# EAGLE library part MAX3375E (library Domino)
Dual Low-Voltage Level Translators
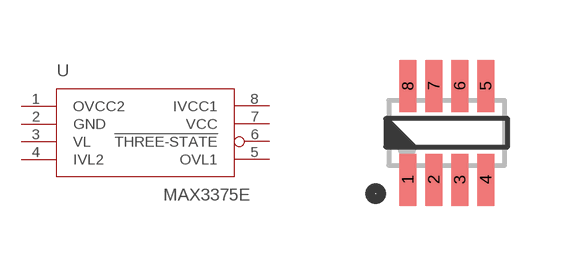
[diagram p5: symbol with the pads of SOT23-8; footprint SOT23-8]

Designator prefix U

## MAX3375EEKA+T  [SOT23-8]
1  OVCC2  out
2  GND  sup
3  VL  sup
4  IVL2  in
5  OVL1  out
6  !THREE-STATE  in
7  VCC  sup
8  IVCC1  in

## Footprint SOT23-8 (pad centres in mm)
Small Outline Transistor (SOT), 8 Pins (SOT23-8) Package
smd 0.42 x 1.3: 1 -0.975,-1.175; 2 -0.325,-1.175; 3 0.325,-1.175; 4 0.975,-1.175; 5 0.975,1.175; 6 0.325,1.175; 7 -0.325,1.175; 8 -0.975,1.175